# Altium schematic symbol library ACJS-MHDR.Schlib: 1 symbol
Pins are listed as number, name and electrical type; pins without a type are passive.

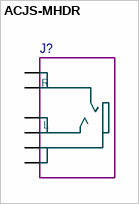
[diagram p0: symbol ACJS-MHDR]

## ACJS-MHDR
designator J?
pins: 1 GND, 2 R, 3 L, 4 GND, 5 R, 6 L